# EAGLE library part MB85RS64VFT (library MB85RS64V)
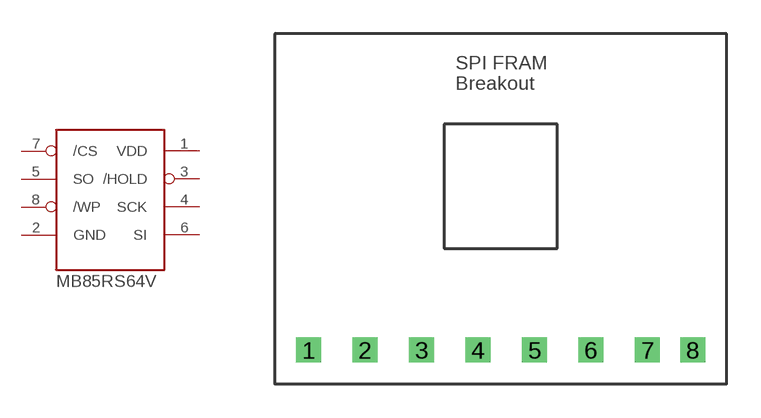
[diagram p0: symbol with the pads of MB85RS64VFT; footprint MB85RS64VFT]

Designator prefix -

## MB85RS64VFT  [MB85RS64VFT]
1  VDD  pwr
2  GND  pwr
3  /HOLD
4  SCK
5  SO
6  SI
7  /CS
8  /WP

## Footprint MB85RS64VFT (pad centres in mm)
drill 0.6 square: 1 1.5,1.5; 2 4,1.5; 3 6.5,1.5; 4 9,1.5; 5 11.5,1.5; 6 14,1.5; 7 16.5,1.5; 8 18.5,1.5